# EAGLE library part IRF7303 (library kwoo)
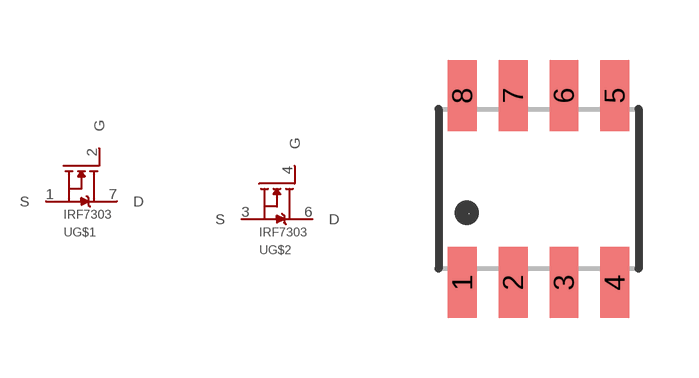
[diagram p7: symbol with the pads of 8-SOIC; footprint 8-SOIC]

Designator prefix -; gates G$1=IRF7303_1/2 G$2=IRF7303_1/2

## IRF7303  [8-SOIC]
1  G$1:S
2  G$1:G
3  G$2:S
4  G$2:G
5  G$2:$D1
6  G$2:D
7  G$1:D
8  G$1:$D1

## Footprint 8-SOIC (pad centres in mm)
smd 0.72 x 1.78: 1 -1.905,-2.34; 2 -0.635,-2.34; 3 0.635,-2.34; 4 1.905,-2.34; 5 1.905,2.34; 6 0.635,2.34; 7 -0.635,2.34; 8 -1.905,2.34